# EAGLE library part 416131160808 (library Switches_rev16a)
WS-HP-1.27 mm small compact SMD Dip Switch with top tape,16 pins,8 poles
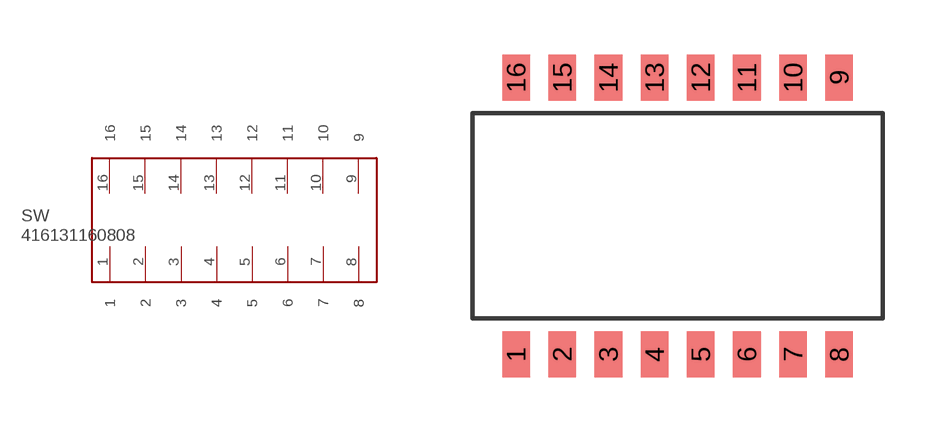
[diagram p28: symbol with the pads of 416131160808; footprint 416131160808]

Designator prefix SW

## 416131160808  [416131160808]
1  1
2  2
3  3
4  4
5  5
6  6
7  7
8  8
9  9
10  10
11  11
12  12
13  13
14  14
15  15
16  16

## Footprint 416131160808 (pad centres in mm)
WS-HP-1.27 mm small compact SMD Dip Switch with top tape,16 pins,8 poles
smd 0.76 x 1.27: 1 -4.445,-3.81; 2 -3.175,-3.81; 3 -1.905,-3.81; 4 -0.635,-3.81; 5 0.635,-3.81; 6 1.905,-3.81; 7 3.175,-3.81; 8 4.445,-3.81; 9 4.445,3.81; 10 3.175,3.81; 11 1.905,3.81; 12 0.635,3.81; 13 -0.635,3.81; 14 -1.905,3.81; 15 -3.175,3.81; 16 -4.445,3.81